# Altium footprint library Controller-RK3562-PCB.PcbLib: 68 footprints (part 1 of 5)
Each footprint in its own frame and in the unit in brackets; x right, y up, seen from the top. Pads: shape width x height; smd on the part's side, far side on the other; paste and mask are expansions set on the pad; w line width, h text height; cw(c..) or ccw(c..) is an arc to the next point about the centre after c.
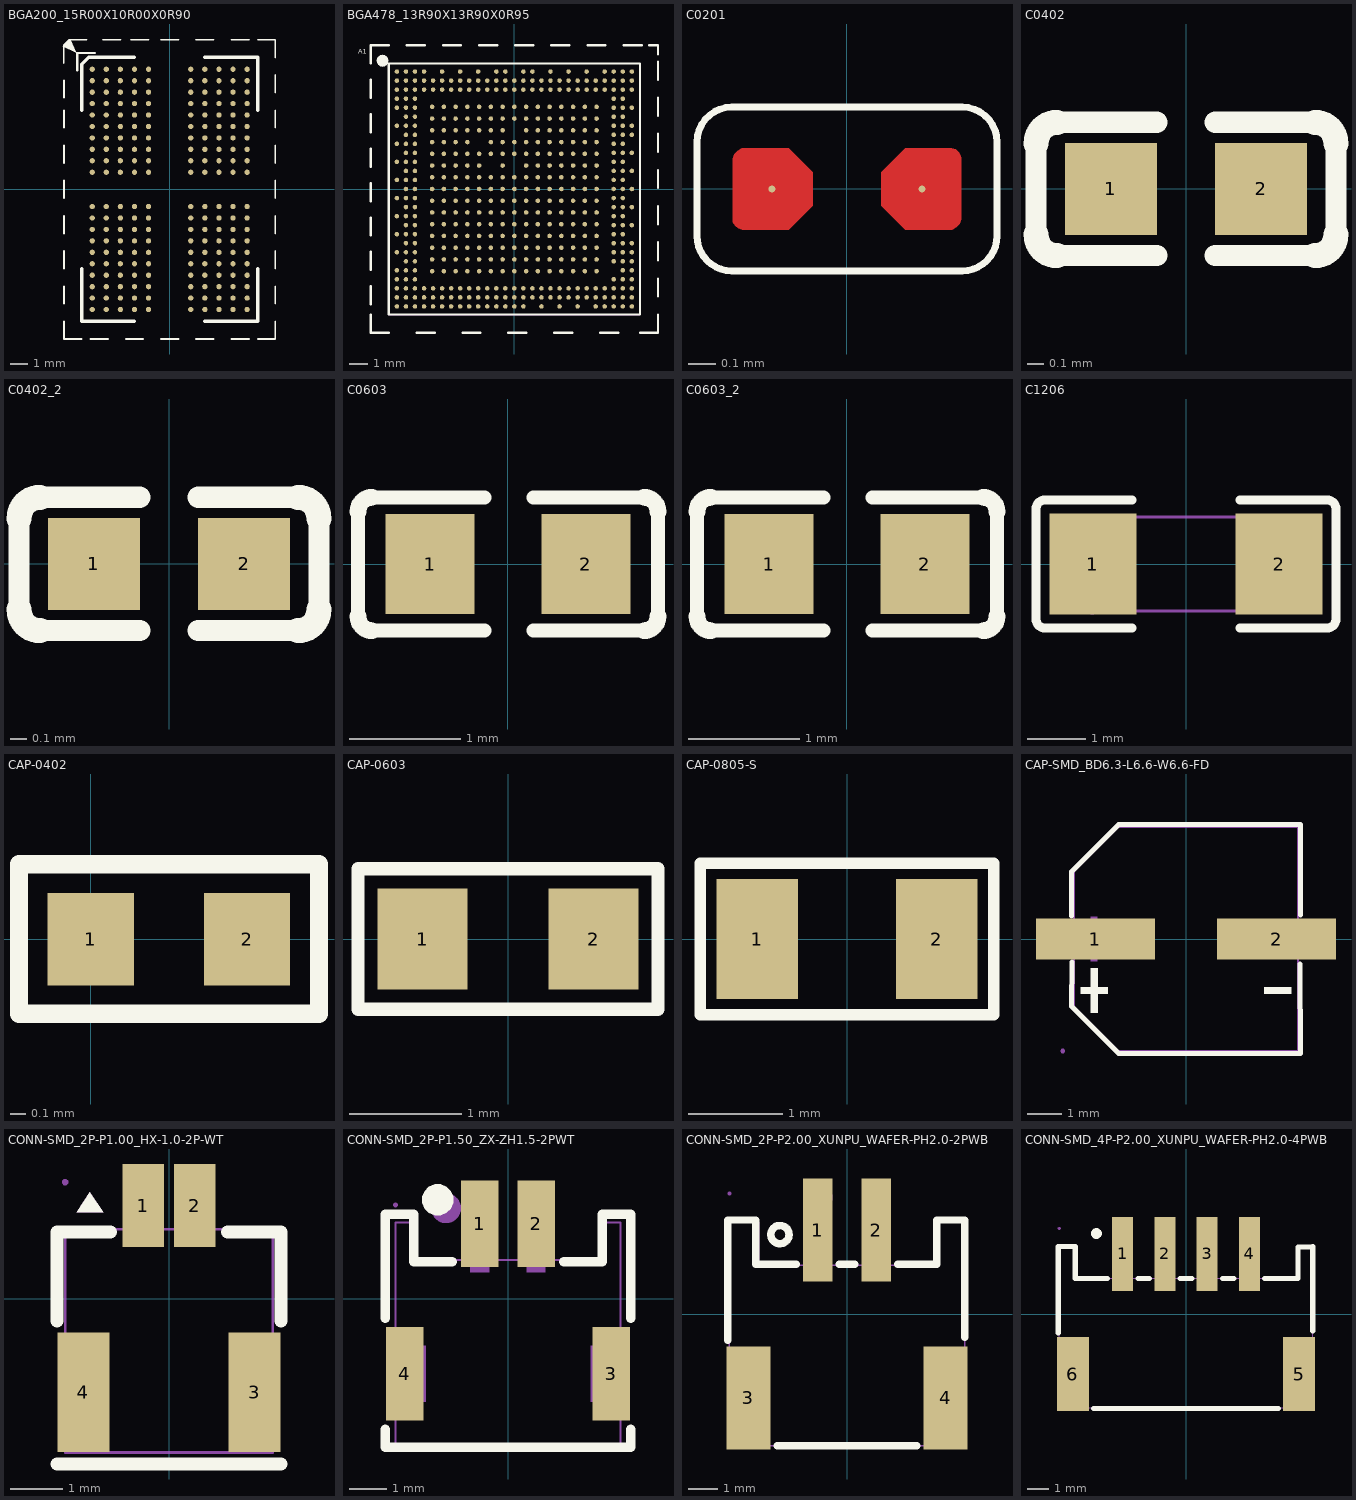
[diagram p0: the footprints below, top view; thin cyan lines are the x and y axes]

## BGA200_15R00X10R00X0R90 [mm] "BGA200_15R00X10R00X0R90"
pads (200):
  round 0.3 smd: A1(-4.4,6.825) A2(-3.6,6.825) A3(-2.8,6.825) A4(-2,6.825) A5(-1.2,6.825) A8(1.2,6.825) A9(2,6.825) A10(2.8,6.825) A11(3.6,6.825) A12(4.4,6.825) AA1(-4.4,-6.175) AA2(-3.6,-6.175) AA3(-2.8,-6.175) AA4(-2,-6.175) AA5(-1.2,-6.175) AA8(1.2,-6.175) AA9(2,-6.175) AA10(2.8,-6.175) AA11(3.6,-6.175) AA12(4.4,-6.175) AB1(-4.4,-6.825) AB2(-3.6,-6.825) AB3(-2.8,-6.825) AB4(-2,-6.825) AB5(-1.2,-6.825) AB8(1.2,-6.825) AB9(2,-6.825) AB10(2.8,-6.825) AB11(3.6,-6.825) AB12(4.4,-6.825) B1(-4.4,6.175) B2(-3.6,6.175) B3(-2.8,6.175) B4(-2,6.175) B5(-1.2,6.175) B8(1.2,6.175) B9(2,6.175) B10(2.8,6.175) B11(3.6,6.175) B12(4.4,6.175) C1(-4.4,5.525) C2(-3.6,5.525) C3(-2.8,5.525) C4(-2,5.525) C5(-1.2,5.525) C8(1.2,5.525) C9(2,5.525) C10(2.8,5.525) C11(3.6,5.525) C12(4.4,5.525) D1(-4.4,4.875) D2(-3.6,4.875) D3(-2.8,4.875) D4(-2,4.875) D5(-1.2,4.875) D8(1.2,4.875) D9(2,4.875) D10(2.8,4.875) D11(3.6,4.875) D12(4.4,4.875) E1(-4.4,4.225) E2(-3.6,4.225) E3(-2.8,4.225) E4(-2,4.225) E5(-1.2,4.225) E8(1.2,4.225) E9(2,4.225) E10(2.8,4.225) E11(3.6,4.225) E12(4.4,4.225) F1(-4.4,3.575) F2(-3.6,3.575) F3(-2.8,3.575) F4(-2,3.575) F5(-1.2,3.575) F8(1.2,3.575) F9(2,3.575) F10(2.8,3.575) F11(3.6,3.575) F12(4.4,3.575) G1(-4.4,2.925) G2(-3.6,2.925) G3(-2.8,2.925) G4(-2,2.925) G5(-1.2,2.925) G8(1.2,2.925) G9(2,2.925) G10(2.8,2.925) G11(3.6,2.925) G12(4.4,2.925) H1(-4.4,2.275) H2(-3.6,2.275) H3(-2.8,2.275) H4(-2,2.275) H5(-1.2,2.275) H8(1.2,2.275) H9(2,2.275) H10(2.8,2.275) H11(3.6,2.275) H12(4.4,2.275) J1(-4.4,1.625) J2(-3.6,1.625) J3(-2.8,1.625) J4(-2,1.625) J5(-1.2,1.625) J8(1.2,1.625) J9(2,1.625) J10(2.8,1.625) J11(3.6,1.625) J12(4.4,1.625) K1(-4.4,0.975) K2(-3.6,0.975) K3(-2.8,0.975) K4(-2,0.975) K5(-1.2,0.975) K8(1.2,0.975) K9(2,0.975) K10(2.8,0.975) K11(3.6,0.975) K12(4.4,0.975) N1(-4.4,-0.975) N2(-3.6,-0.975) N3(-2.8,-0.975) N4(-2,-0.975) N5(-1.2,-0.975) N8(1.2,-0.975) N9(2,-0.975) N10(2.8,-0.975) N11(3.6,-0.975) N12(4.4,-0.975) P1(-4.4,-1.625) P2(-3.6,-1.625) P3(-2.8,-1.625) P4(-2,-1.625) P5(-1.2,-1.625) P8(1.2,-1.625) P9(2,-1.625) P10(2.8,-1.625) P11(3.6,-1.625) P12(4.4,-1.625) R1(-4.4,-2.275) R2(-3.6,-2.275) R3(-2.8,-2.275) R4(-2,-2.275) R5(-1.2,-2.275) R8(1.2,-2.275) R9(2,-2.275) R10(2.8,-2.275) R11(3.6,-2.275) R12(4.4,-2.275) T1(-4.4,-2.925) T2(-3.6,-2.925) T3(-2.8,-2.925) T4(-2,-2.925) T5(-1.2,-2.925) T8(1.2,-2.925) T9(2,-2.925) T10(2.8,-2.925) T11(3.6,-2.925) T12(4.4,-2.925) U1(-4.4,-3.575) U2(-3.6,-3.575) U3(-2.8,-3.575) U4(-2,-3.575) U5(-1.2,-3.575) U8(1.2,-3.575) U9(2,-3.575) U10(2.8,-3.575) U11(3.6,-3.575) U12(4.4,-3.575) V1(-4.4,-4.225) V2(-3.6,-4.225) V3(-2.8,-4.225) V4(-2,-4.225) V5(-1.2,-4.225) V8(1.2,-4.225) V9(2,-4.225) V10(2.8,-4.225) V11(3.6,-4.225) V12(4.4,-4.225) W1(-4.4,-4.875) W2(-3.6,-4.875) W3(-2.8,-4.875) W4(-2,-4.875) W5(-1.2,-4.875) W8(1.2,-4.875) W9(2,-4.875) W10(2.8,-4.875) W11(3.6,-4.875) W12(4.4,-4.875) Y1(-4.4,-5.525) Y2(-3.6,-5.525) Y3(-2.8,-5.525) Y4(-2,-5.525) Y5(-1.2,-5.525) Y8(1.2,-5.525) Y9(2,-5.525) Y10(2.8,-5.525) Y11(3.6,-5.525) Y12(4.4,-5.525)
Top Overlay:
  dashed: -5.651,8.544 -6.076,8.12 -5.298,7.766
  lines w0.1: -6.012,7.188 -6.012,8.188 -5.705,8.495 -4.705,8.495 ; -6,-7.5 -6,-8.5 -5,-8.5 ; -6,-6.5 -6,-5.5 ; -6,-4.5 -6,-3.5 ; -6,-2.5 -6,-1.5 ; -6,-0.5 -6,0.5 ; -6,1.5 -6,2.5 ; -6,3.5 -6,4.5 ; -6,5.2 -6,6.2 ; -4.5,-8.5 -3.5,-8.5 ; -3.8,8.5 -2.8,8.5 ; -2.5,-8.5 -1.5,-8.5 ; -2.2,8.5 -1.2,8.5 ; -0.5,-8.5 0.5,-8.5 ; -0.5,8.5 0.5,8.5 ; 1.5,-8.5 2.5,-8.5 ; 1.5,8.5 2.5,8.5 ; 3.5,-8.5 4.5,-8.5 ; 3.5,8.5 4.5,8.5 ; 5,-8.5 6,-8.5 6,-7.5 ; 5,8.5 6,8.5 6,7.5 ; 6,-6.5 6,-5.5 ; 6,-4.5 6,-3.5 ; 6,-2.5 6,-1.5 ; 6,-0.5 6,0.5 ; 6,1.5 6,2.5 ; 6,3.5 6,4.5 ; 6,5.5 6,6.5
  lines w0.127: -5.25,6.75 -5.25,7.75 -4.25,7.75
  lines w0.2: -5,-4.5 -5,-7.5 -2,-7.5 ; -5,4.5 -5,7.1 -4.6,7.5 -2,7.5 ; 2,-7.5 5,-7.5 5,-4.5 ; 2,7.5 5,7.5 5,4.5
Mechanical 10:
  text "K8" at 1.2,1.3 h0.41
  text "N8" at 1.2,-0.65 h0.41
  text "K5" at -1.2,1.3 h0.41
  text "N5" at -1.2,-0.65 h0.41
  text "G11" at 3.6,3.413 h0.41
  text "A1" at -4.4,7.15 h0.41
  text "AB2" at -3.6,-6.337 h0.41
  text "AB11" at 3.6,-6.175 h0.41
  text "AB12" at 4.4,-6.175 h0.41
  text "A2" at -3.6,7.15 h0.41
  text "A11" at 3.6,7.313 h0.41
  text "A12" at 4.4,7.313 h0.41
  text "B1" at -4.4,6.5 h0.41
  text "B12" at 4.4,6.663 h0.41
  text "AA1" at -4.4,-5.687 h0.41
  text "AA12" at 4.4,-5.525 h0.41
  text "AB1" at -4.4,-6.337 h0.41
  text "A8" at 1.2,7.15 h0.41
  text "A5" at -1.2,7.15 h0.41
  text "B11" at 3.6,6.663 h0.41
  text "V11" at 3.6,-3.737 h0.41
  text "E9" at 2,4.55 h0.41
  text "AA9" at 2,-5.687 h0.41
  text "E10" at 2.8,4.713 h0.41
  text "H2" at -3.6,2.6 h0.41
  text "R9" at 2,-1.95 h0.41
  text "J11" at 3.6,2.113 h0.41
  text "P9" at 2,-1.3 h0.41
  text "H3" at -2.8,2.6 h0.41
  text "Y10" at 2.8,-5.037 h0.41
  text "E2" at -3.6,4.55 h0.41
  text "U4" at -2,-3.25 h0.41
  text "B4" at -2,6.5 h0.41
  text "Y11" at 3.6,-5.037 h0.41
  text "F9" at 2,3.9 h0.41
  text "Y9" at 2,-5.2 h0.41
  text "D3" at -2.8,5.2 h0.41
  text "W10" at 2.8,-4.387 h0.41
  text "P2" at -3.6,-1.3 h0.41
  text "H11" at 3.6,2.763 h0.41
  text "P5" at -1.2,-1.3 h0.41
  text "H4" at -2,2.6 h0.41
  text "Y3" at -2.8,-5.2 h0.41
  text "C2" at -3.6,5.85 h0.41
  text "U2" at -3.6,-3.25 h0.41
  text "C4" at -2,5.85 h0.41
  text "AA11" at 3.6,-5.525 h0.41
  text "F11" at 3.6,4.063 h0.41
  text "V9" at 2,-3.9 h0.41
  text "E3" at -2.8,4.55 h0.41
  text "V10" at 2.8,-3.737 h0.41
  text "T11" at 3.6,-2.437 h0.41
  text "R2" at -3.6,-1.95 h0.41
  text "H10" at 2.8,2.763 h0.41
  text "P4" at -2,-1.3 h0.41
  text "J8" at 1.2,1.95 h0.41
  text "R3" at -2.8,-1.95 h0.41
  text "B2" at -3.6,6.5 h0.41
  text "V2" at -3.6,-3.9 h0.41
  text "E4" at -2,4.55 h0.41
  text "AA4" at -2,-5.687 h0.41
  text "E11" at 3.6,4.713 h0.41
  text "U9" at 2,-3.25 h0.41
  text "B9" at 2,6.5 h0.41
  text "W3" at -2.8,-4.55 h0.41
  text "J9" at 2,1.95 h0.41
  text "R4" at -2,-1.95 h0.41
  text "C10" at 2.8,6.013 h0.41
  text "Y2" at -3.6,-5.2 h0.41
  text "F4" at -2,3.9 h0.41
  text "C11" at 3.6,6.013 h0.41
  text "U11" at 3.6,-3.087 h0.41
  text "C9" at 2,5.85 h0.41
  text "V3" at -2.8,-3.9 h0.41
  text "D10" at 2.8,5.363 h0.41
  text "J2" at -3.6,1.95 h0.41
  text "R10" at 2.8,-1.787 h0.41
  text "P8" at 1.2,-1.3 h0.41
  text "C3" at -2.8,5.85 h0.41
  text "AA2" at -3.6,-5.687 h0.41
  text "F2" at -3.6,3.9 h0.41
  text "J4" at -2,1.95 h0.41
  text "J5" at -1.2,1.95 h0.41
  text "H9" at 2,2.6 h0.41
  text "P11" at 3.6,-1.137 h0.41
  text "R11" at 3.6,-1.787 h0.41
  text "V4" at -2,-3.9 h0.41
  text "Y4" at -2,-5.2 h0.41
  text "T4" at -2,-2.6 h0.41
  text "T9" at 2,-2.6 h0.41
  text "U1" at -4.4,-3.25 h0.41
  text "U12" at 4.4,-3.087 h0.41
  text "F1" at -4.4,3.9 h0.41
  text "G4" at -2,3.25 h0.41
  text "F12" at 4.4,4.063 h0.41
  text "G9" at 2,3.25 h0.41
  text "A9" at 2,7.15 h0.41
  text "T2" at -3.6,-2.6 h0.41
  text "G2" at -3.6,3.25 h0.41
  text "F5" at -1.2,3.9 h0.41
  text "F8" at 1.2,3.9 h0.41
  text "H1" at -4.4,2.6 h0.41
  text "H5" at -1.2,2.6 h0.41
  text "H8" at 1.2,2.6 h0.41
  text "H12" at 4.4,2.763 h0.41
  text "K3" at -2.8,1.3 h0.41
  text "K10" at 2.8,1.463 h0.41
  text "K12" at 4.4,1.463 h0.41
  text "N1" at -4.4,-0.65 h0.41
  text "N3" at -2.8,-0.65 h0.41
  text "N10" at 2.8,-0.487 h0.41
  text "N12" at 4.4,-0.487 h0.41
  text "R1" at -4.4,-1.95 h0.41
  text "R5" at -1.2,-1.95 h0.41
  text "R8" at 1.2,-1.95 h0.41
  text "R12" at 4.4,-1.787 h0.41
  text "U5" at -1.2,-3.25 h0.41
  text "U8" at 1.2,-3.25 h0.41
  text "K1" at -4.4,1.3 h0.41
  text "AB9" at 2,-6.337 h0.41
  text "A4" at -2,7.15 h0.41
  text "AB4" at -2,-6.337 h0.41
  text "AB8" at 1.2,-6.337 h0.41
  text "A3" at -2.8,7.15 h0.41
  text "J1" at -4.4,1.95 h0.41
  text "J3" at -2.8,1.95 h0.41
  text "K2" at -3.6,1.3 h0.41
  text "C5" at -1.2,5.85 h0.41
  text "C8" at 1.2,5.85 h0.41
  text "E8" at 1.2,4.55 h0.41
  text "E5" at -1.2,4.55 h0.41
  text "C1" at -4.4,5.85 h0.41
  text "D2" at -3.6,5.2 h0.41
  text "D4" at -2,5.2 h0.41
  text "E1" at -4.4,4.55 h0.41
  text "G3" at -2.8,3.25 h0.41
  text "G5" at -1.2,3.25 h0.41
  text "G8" at 1.2,3.25 h0.41
  text "P12" at 4.4,-1.137 h0.41
  text "T12" at 4.4,-2.437 h0.41
  text "W11" at 3.6,-4.387 h0.41
  text "Y12" at 4.4,-5.037 h0.41
  text "T10" at 2.8,-2.437 h0.41
  text "W9" at 2,-4.55 h0.41
  text "V8" at 1.2,-3.9 h0.41
  text "Y8" at 1.2,-5.2 h0.41
  text "V5" at -1.2,-3.9 h0.41
  text "T3" at -2.8,-2.6 h0.41
  text "T5" at -1.2,-2.6 h0.41
  text "T8" at 1.2,-2.6 h0.41
  text "V1" at -4.4,-3.9 h0.41
  text "V12" at 4.4,-3.737 h0.41
  text "W2" at -3.6,-4.55 h0.41
  text "W4" at -2,-4.55 h0.41
  text "Y1" at -4.4,-5.2 h0.41
  text "AB5" at -1.2,-6.337 h0.41
  text "Y5" at -1.2,-5.2 h0.41
  text "AB3" at -2.8,-6.337 h0.41
  text "AB10" at 2.8,-6.175 h0.41
  text "A10" at 2.8,7.313 h0.41
  text "C12" at 4.4,6.013 h0.41
  text "D9" at 2,5.2 h0.41
  text "D11" at 3.6,5.363 h0.41
  text "E12" at 4.4,4.713 h0.41
  text "G1" at -4.4,3.25 h0.41
  text "G10" at 2.8,3.413 h0.41
  text "G12" at 4.4,3.413 h0.41
  text "J10" at 2.8,2.113 h0.41
  text "J12" at 4.4,2.113 h0.41
  text "K4" at -2,1.3 h0.41
  text "K9" at 2,1.3 h0.41
  text "K11" at 3.6,1.463 h0.41
  text "N2" at -3.6,-0.65 h0.41
  text "N4" at -2,-0.65 h0.41
  text "N9" at 2,-0.65 h0.41
  text "N11" at 3.6,-0.487 h0.41
  text "P1" at -4.4,-1.3 h0.41
  text "P3" at -2.8,-1.3 h0.41
  text "P10" at 2.8,-1.137 h0.41
  text "T1" at -4.4,-2.6 h0.41
  text "AA8" at 1.2,-5.687 h0.41
  text "F3" at -2.8,3.9 h0.41
  text "B10" at 2.8,6.663 h0.41
  text "F10" at 2.8,4.063 h0.41
  text "B5" at -1.2,6.5 h0.41
  text "U10" at 2.8,-3.087 h0.41
  text "AA5" at -1.2,-5.687 h0.41
  text "D12" at 4.4,5.363 h0.41
  text "W12" at 4.4,-4.387 h0.41
  text "B8" at 1.2,6.5 h0.41
  text "D8" at 1.2,5.2 h0.41
  text "D5" at -1.2,5.2 h0.41
  text "W5" at -1.2,-4.55 h0.41
  text "U3" at -2.8,-3.25 h0.41
  text "AA10" at 2.8,-5.525 h0.41
  text "W8" at 1.2,-4.55 h0.41
  text "AA3" at -2.8,-5.687 h0.41
  text "W1" at -4.4,-4.55 h0.41
  text "D1" at -4.4,5.2 h0.41
  text "B3" at -2.8,6.5 h0.41
Top Assembly:
  text "LPDDR4_200P" at 0,-0.127 h0.41
  text ".Designator" at 0,-0.254 h0.75
3D body "MT53E512M32D1ZW-046 WT_B.step": height 0.71, standoff 0, extent -5,-7.252 5,7.248

## BGA478_13R90X13R90X0R95 [mm] "BGA478_13R90X13R90X0R95"
pads (478):
  round 0.25 smd: 1A1(-4.55,4.55) 1A2(-3.9,4.55) 1A3(-3.25,4.55) 1A4(-2.6,4.55) 1A5(-1.95,4.55) 1A6(-1.3,4.55) 1A7(-0.65,4.55) 1A8(0,4.55) 1A9(0.65,4.55) 1A10(1.3,4.55) 1A11(1.95,4.55) 1A12(2.6,4.55) 1A13(3.25,4.55) 1A14(3.9,4.55) 1A15(4.55,4.55) 1B1(-4.55,3.9) 1B2(-3.9,3.9) 1B3(-3.25,3.9) 1B4(-2.6,3.9) 1B5(-1.95,3.9) 1B6(-1.3,3.9) 1B7(-0.65,3.9) 1B8(0,3.9) 1B9(0.65,3.9) 1B10(1.3,3.9) 1B11(1.95,3.9) 1B12(2.6,3.9) 1B13(3.25,3.9) 1B14(3.9,3.9) 1B15(4.55,3.9) 1C1(-4.55,3.25) 1C2(-3.9,3.25) 1C3(-3.25,3.25) 1C4(-2.6,3.25) 1C5(-1.95,3.25) 1C6(-1.3,3.25) 1C7(-0.65,3.25) 1C9(0.65,3.25) 1C10(1.3,3.25) 1C11(1.95,3.25) 1C12(2.6,3.25) 1C13(3.25,3.25) 1C14(3.9,3.25) 1C15(4.55,3.25) 1D1(-4.55,2.6) 1D2(-3.9,2.6) 1D3(-3.25,2.6) 1D4(-2.6,2.6) 1D6(-1.3,2.6) 1D7(-0.65,2.6) 1D8(0,2.6) 1D9(0.65,2.6) 1D10(1.3,2.6) 1D11(1.95,2.6) 1D12(2.6,2.6) 1D13(3.25,2.6) 1D14(3.9,2.6) 1D15(4.55,2.6) 1E1(-4.55,1.95) 1E2(-3.9,1.95) 1E3(-3.25,1.95) 1E4(-2.6,1.95) 1E5(-1.95,1.95) 1E6(-1.3,1.95) 1E7(-0.65,1.95) 1E8(0,1.95) 1E9(0.65,1.95) 1E10(1.3,1.95) 1E11(1.95,1.95) 1E12(2.6,1.95) 1E13(3.25,1.95) 1E14(3.9,1.95) 1E15(4.55,1.95) 1F1(-4.55,1.3) 1F2(-3.9,1.3) 1F3(-3.25,1.3) 1F4(-2.6,1.3) 1F5(-1.95,1.3) 1F7(-0.65,1.3) 1F9(0.65,1.3) 1F10(1.3,1.3) 1F11(1.95,1.3) 1F12(2.6,1.3) 1F13(3.25,1.3) 1F14(3.9,1.3) 1F15(4.55,1.3) 1G1(-4.55,0.65) 1G2(-3.9,0.65) 1G3(-3.25,0.65) 1G4(-2.6,0.65) 1G5(-1.95,0.65) 1G6(-1.3,0.65) 1G7(-0.65,0.65) 1G8(0,0.65) 1G9(0.65,0.65) 1G10(1.3,0.65) 1G11(1.95,0.65) 1G12(2.6,0.65) 1G13(3.25,0.65) 1G14(3.9,0.65) 1G15(4.55,0.65) 1H1(-4.55,0) 1H2(-3.9,0) 1H3(-3.25,0) 1H4(-2.6,0) 1H5(-1.95,0) 1H6(-1.3,0) 1H7(-0.65,0) 1H8(0,0) 1H9(0.65,0) 1H10(1.3,0) 1H11(1.95,0) 1H12(2.6,0) 1H13(3.25,0) 1H14(3.9,0) 1H15(4.55,0) 1J1(-4.55,-0.65) 1J2(-3.9,-0.65) 1J3(-3.25,-0.65) 1J4(-2.6,-0.65) 1J5(-1.95,-0.65) 1J6(-1.3,-0.65) 1J7(-0.65,-0.65) 1J8(0,-0.65) 1J9(0.65,-0.65) 1J10(1.3,-0.65) 1J11(1.95,-0.65) 1J12(2.6,-0.65) 1J13(3.25,-0.65) 1J14(3.9,-0.65) 1J15(4.55,-0.65) 1K1(-4.55,-1.3) 1K2(-3.9,-1.3) 1K3(-3.25,-1.3) 1K4(-2.6,-1.3) 1K5(-1.95,-1.3) 1K6(-1.3,-1.3) 1K7(-0.65,-1.3) 1K8(0,-1.3) 1K9(0.65,-1.3) 1K10(1.3,-1.3) 1K11(1.95,-1.3) 1K12(2.6,-1.3) 1K13(3.25,-1.3) 1K14(3.9,-1.3) 1K15(4.55,-1.3) 1L1(-4.55,-1.95) 1L2(-3.9,-1.95) 1L3(-3.25,-1.95) 1L4(-2.6,-1.95) 1L5(-1.95,-1.95) 1L6(-1.3,-1.95) 1L7(-0.65,-1.95) 1L8(0,-1.95) 1L9(0.65,-1.95) 1L10(1.3,-1.95) 1L11(1.95,-1.95) 1L12(2.6,-1.95) 1L13(3.25,-1.95) 1L14(3.9,-1.95) 1L15(4.55,-1.95) 1M1(-4.55,-2.6) 1M2(-3.9,-2.6) 1M3(-3.25,-2.6) 1M4(-2.6,-2.6) 1M5(-1.95,-2.6) 1M6(-1.3,-2.6) 1M7(-0.65,-2.6) 1M8(0,-2.6) 1M9(0.65,-2.6) 1M10(1.3,-2.6) 1M11(1.95,-2.6) 1M12(2.6,-2.6) 1M13(3.25,-2.6) 1M14(3.9,-2.6) 1M15(4.55,-2.6) 1N1(-4.55,-3.25) 1N2(-3.9,-3.25) 1N3(-3.25,-3.25) 1N4(-2.6,-3.25) 1N5(-1.95,-3.25) 1N6(-1.3,-3.25) 1N7(-0.65,-3.25) 1N8(0,-3.25) 1N9(0.65,-3.25) 1N10(1.3,-3.25) 1N11(1.95,-3.25) 1N12(2.6,-3.25) 1N13(3.25,-3.25) 1N14(3.9,-3.25) 1N15(4.55,-3.25) 1P1(-4.55,-3.9) 1P2(-3.9,-3.9) 1P3(-3.25,-3.9) 1P4(-2.6,-3.9) 1P5(-1.95,-3.9) 1P6(-1.3,-3.9) 1P7(-0.65,-3.9) 1P8(0,-3.9) 1P9(0.65,-3.9) 1P10(1.3,-3.9) 1P11(1.95,-3.9) 1P12(2.6,-3.9) 1P13(3.25,-3.9) 1P14(3.9,-3.9) 1P15(4.55,-3.9) 1R1(-4.55,-4.55) 1R2(-3.9,-4.55) 1R3(-3.25,-4.55) 1R4(-2.6,-4.55) 1R5(-1.95,-4.55) 1R6(-1.3,-4.55) 1R7(-0.65,-4.55) 1R8(0,-4.55) 1R9(0.65,-4.55) 1R10(1.3,-4.55) 1R11(1.95,-4.55) 1R12(2.6,-4.55) 1R13(3.25,-4.55) 1R14(3.9,-4.55) 1R15(4.55,-4.55) A1(-6.5,6.5) A2(-6,6.5) A3(-5.5,6.5) A4(-5,6.5) A6(-4,6.5) A8(-3,6.5) A10(-2,6.5) A12(-1,6.5) A13(-0.5,6.5) A15(0.5,6.5) A16(1,6.5) A18(2,6.5) A20(3,6.5) A22(4,6.5) A24(5,6.5) A25(5.5,6.5) A26(6,6.5) A27(6.5,6.5) AA1(-6.5,-3.5) AA2(-6,-3.5) AA3(-5.5,-3.5) AA25(5.5,-3.5) AA26(6,-3.5) AA27(6.5,-3.5) AB2(-6,-4) AB3(-5.5,-4) AB25(5.5,-4) AB26(6,-4) AB27(6.5,-4) AC1(-6.5,-4.5) AC2(-6,-4.5) AC3(-5.5,-4.5) AC26(6,-4.5) AC27(6.5,-4.5) AD1(-6.5,-5) AD2(-6,-5) AD3(-5.5,-5) AD25(5.5,-5) AD26(6,-5) AD27(6.5,-5) AE1(-6.5,-5.5) AE2(-6,-5.5) AE3(-5.5,-5.5) AE4(-5,-5.5) AE5(-4.5,-5.5) AE6(-4,-5.5) AE7(-3.5,-5.5) AE8(-3,-5.5) AE9(-2.5,-5.5) AE10(-2,-5.5) AE11(-1.5,-5.5) AE12(-1,-5.5) AE13(-0.5,-5.5) AE14(0,-5.5) AE15(0.5,-5.5) AE16(1,-5.5) AE17(1.5,-5.5) AE18(2,-5.5) AE19(2.5,-5.5) AE20(3,-5.5) AE21(3.5,-5.5) AE22(4,-5.5) AE23(4.5,-5.5) AE24(5,-5.5) AE25(5.5,-5.5) AE26(6,-5.5) AE27(6.5,-5.5) AF1(-6.5,-6) AF2(-6,-6) AF3(-5.5,-6) AF4(-5,-6) AF5(-4.5,-6) AF6(-4,-6) AF7(-3.5,-6) AF8(-3,-6) AF9(-2.5,-6) AF10(-2,-6) AF11(-1.5,-6) AF12(-1,-6) AF13(-0.5,-6) AF14(0,-6) AF15(0.5,-6) AF16(1,-6) AF17(1.5,-6) AF18(2,-6) AF19(2.5,-6) AF20(3,-6) AF21(3.5,-6) AF22(4,-6) AF23(4.5,-6) AF24(5,-6) AF25(5.5,-6) AF26(6,-6) AF27(6.5,-6) AG1(-6.5,-6.5) AG2(-6,-6.5) AG3(-5.5,-6.5) AG4(-5,-6.5) AG5(-4.5,-6.5) AG6(-4,-6.5) AG7(-3.5,-6.5) AG8(-3,-6.5) AG9(-2.5,-6.5) AG10(-2,-6.5) AG11(-1.5,-6.5) AG12(-1,-6.5) AG13(-0.5,-6.5) AG14(0,-6.5) AG15(0.5,-6.5) AG17(1.5,-6.5) AG19(2.5,-6.5) AG21(3.5,-6.5) AG23(4.5,-6.5) AG24(5,-6.5) AG25(5.5,-6.5) AG26(6,-6.5) AG27(6.5,-6.5) B1(-6.5,6) B2(-6,6) B3(-5.5,6) B4(-5,6) B5(-4.5,6) B6(-4,6) B7(-3.5,6) B8(-3,6) B9(-2.5,6) B10(-2,6) B11(-1.5,6) B12(-1,6) B13(-0.5,6) B14(0,6) B15(0.5,6) B16(1,6) B17(1.5,6) B18(2,6) B19(2.5,6) B20(3,6) B21(3.5,6) B22(4,6) B23(4.5,6) B24(5,6) B25(5.5,6) B26(6,6) B27(6.5,6) C1(-6.5,5.5) C2(-6,5.5) C3(-5.5,5.5) C4(-5,5.5) C5(-4.5,5.5) C6(-4,5.5) C7(-3.5,5.5) C8(-3,5.5) C9(-2.5,5.5) C10(-2,5.5) C11(-1.5,5.5) C12(-1,5.5) C13(-0.5,5.5) C14(0,5.5) C15(0.5,5.5) C16(1,5.5) C17(1.5,5.5) C18(2,5.5) C19(2.5,5.5) C20(3,5.5) C21(3.5,5.5) C22(4,5.5) C23(4.5,5.5) C24(5,5.5) C25(5.5,5.5) C26(6,5.5) C27(6.5,5.5) D1(-6.5,5) D2(-6,5) D3(-5.5,5) D25(5.5,5) D26(6,5) E1(-6.5,4.5) E2(-6,4.5) E3(-5.5,4.5) E25(5.5,4.5) E26(6,4.5) E27(6.5,4.5) F2(-6,4) F3(-5.5,4) F25(5.5,4) F26(6,4) G1(-6.5,3.5) G2(-6,3.5) G3(-5.5,3.5) G25(5.5,3.5) G26(6,3.5) G27(6.5,3.5) H2(-6,3) H3(-5.5,3) H25(5.5,3) H26(6,3) H27(6.5,3) J1(-6.5,2.5) J2(-6,2.5) J3(-5.5,2.5) J25(5.5,2.5) J26(6,2.5) K2(-6,2) K3(-5.5,2) K25(5.5,2) K26(6,2) K27(6.5,2) L1(-6.5,1.5) L2(-6,1.5) L3(-5.5,1.5) L25(5.5,1.5) L26(6,1.5) M2(-6,1) M3(-5.5,1) M25(5.5,1) M26(6,1) M27(6.5,1) N1(-6.5,0.5) N2(-6,0.5) N3(-5.5,0.5) N25(5.5,0.5) N26(6,0.5) P2(-6,0) P3(-5.5,0) P25(5.5,0) P26(6,0) P27(6.5,0) R1(-6.5,-0.5) R2(-6,-0.5) R3(-5.5,-0.5) R25(5.5,-0.5) R26(6,-0.5) T2(-6,-1) T3(-5.5,-1) T25(5.5,-1) T26(6,-1) T27(6.5,-1) U1(-6.5,-1.5) U2(-6,-1.5) U3(-5.5,-1.5) U25(5.5,-1.5) U26(6,-1.5) V2(-6,-2) V3(-5.5,-2) V25(5.5,-2) V26(6,-2) V27(6.5,-2) W1(-6.5,-2.5) W2(-6,-2.5) W3(-5.5,-2.5) W25(5.5,-2.5) W26(6,-2.5) Y2(-6,-3) Y3(-5.5,-3) Y25(5.5,-3) Y26(6,-3) Y27(6.5,-3)
Top Overlay:
  dashed: -6.978,7.1 -7.002,7.223 -7.072,7.328 -7.177,7.398 -7.3,7.422 -7.423,7.398 -7.458,7.375 -7.528,7.328 -7.598,7.223 -7.622,7.1 -7.598,6.977 -7.528,6.872 -7.458,6.825 -7.423,6.802 -7.3,6.778 -7.177,6.802 -7.072,6.872 -7.002,6.977
  lines w0.127: -7.95,-6.95 -7.95,-7.95 ; -7.95,-6.385 -7.95,-5.385 ; -7.95,-4.48 -7.95,-3.48 ; -7.95,-2.575 -7.95,-1.575 ; -7.95,-0.67 -7.95,0.33 ; -7.95,1.235 -7.95,2.235 ; -7.95,3.14 -7.95,4.14 ; -7.95,5.045 -7.95,6.045 ; -7.95,6.95 -7.95,7.95 -6.95,7.95 ; -5.95,7.95 -4.95,7.95 ; -5.41,-7.95 -4.41,-7.95 ; -3.95,7.95 -2.95,7.95 ; -2.87,-7.95 -1.87,-7.95 ; -1.95,7.95 -0.95,7.95 ; -0.33,-7.95 0.67,-7.95 ; 0.05,7.95 1.05,7.95 ; 2.05,7.95 3.05,7.95 ; 2.21,-7.95 3.21,-7.95 ; 4.05,7.95 5.05,7.95 ; 4.75,-7.95 5.75,-7.95 ; 6.05,7.95 7.05,7.95 ; 6.95,-7.95 7.95,-7.95 7.95,-6.95 ; 7.45,7.95 7.95,7.95 7.95,7.45 ; 7.95,-5.95 7.95,-4.95 ; 7.95,-3.95 7.95,-2.95 ; 7.95,-1.95 7.95,-0.95 ; 7.95,0.05 7.95,1.05 ; 7.95,2.05 7.95,3.05 ; 7.95,4.05 7.95,5.05 ; 7.95,6.05 7.95,7.05 ; -7.95,-7.95 -6.95,-7.95 -7.95,-7.95 ; -6.95,-6.95 -6.95,6.95 6.95,6.95 6.95,-6.95 -6.95,-6.95
  text "A1" at -8.653,7.48 h0.25
Mechanical 5:
  lines w0.025: -6.95,-6.95 -6.95,6.95 6.95,6.95 6.95,-6.95 -6.95,-6.95
Mechanical 10:
  text "1M8" at -0.192,-2.6 h0.16
  text "1M7" at -0.842,-2.6 h0.16
  text "1L8" at -0.192,-1.95 h0.16
  text "1L6" at -1.492,-1.95 h0.16
  text "1H11" at 1.694,0 h0.16
  text "1E10" at 1.044,1.95 h0.16
  text "1E8" at -0.192,1.95 h0.16
  text "1E6" at -1.492,1.95 h0.16
  text "1E4" at -2.792,1.95 h0.16
  text "E2" at -6.128,4.5 h0.16
  text "AF27" at 6.244,-6 h0.16
  text "AF12" at -1.256,-6 h0.16
  text "AG12" at -1.256,-6.5 h0.16
  text "AF10" at -2.256,-6 h0.16
  text "AG10" at -2.256,-6.5 h0.16
  text "AG11" at -1.756,-6.5 h0.16
  text "AF11" at -1.756,-6 h0.16
  text "U25" at 5.308,-1.5 h0.16
  text "AG13" at -0.756,-6.5 h0.16
  text "AF13" at -0.756,-6 h0.16
  text "AF14" at -0.256,-6 h0.16
  text "AG14" at -0.256,-6.5 h0.16
  text "E1" at -6.628,4.5 h0.16
  text "AG24" at 4.744,-6.5 h0.16
  text "AE24" at 4.744,-5.5 h0.16
  text "G1" at -6.628,3.5 h0.16
  text "D1" at -6.628,5 h0.16
  text "F2" at -6.128,4 h0.16
  text "H2" at -6.128,3 h0.16
  text "1M1" at -4.742,-2.6 h0.16
  text "1P15" at 4.294,-3.9 h0.16
  text "P27" at 6.308,0 h0.16
  text "AG21" at 3.244,-6.5 h0.16
  text "W1" at -6.628,-2.5 h0.16
  text "W3" at -5.628,-2.5 h0.16
  text "L26" at 5.808,1.5 h0.16
  text "K27" at 6.308,2 h0.16
  text "H25" at 5.308,3 h0.16
  text "J26" at 5.808,2.5 h0.16
  text "J25" at 5.308,2.5 h0.16
  text "E25" at 5.308,4.5 h0.16
  text "1L12" at 2.344,-1.95 h0.16
  text "D25" at 5.308,5 h0.16
  text "P3" at -5.628,0 h0.16
  text "AF26" at 5.744,-6 h0.16
  text "1P14" at 3.644,-3.9 h0.16
  text "1E14" at 3.644,1.95 h0.16
  text "1E15" at 4.294,1.95 h0.16
  text "AE22" at 3.744,-5.5 h0.16
  text "V2" at -6.128,-2 h0.16
  text "1B6" at -1.492,3.9 h0.16
  text "1B7" at -0.842,3.9 h0.16
  text "1B10" at 1.044,3.9 h0.16
  text "1C9" at 0.458,3.25 h0.16
  text "B9" at -2.628,6 h0.16
  text "B19" at 2.308,6 h0.16
  text "1L1" at -4.742,-1.95 h0.16
  text "1M2" at -4.092,-2.6 h0.16
  text "L2" at -6.128,1.5 h0.16
  text "W25" at 5.308,-2.5 h0.16
  text "1J14" at 3.644,-0.65 h0.16
  text "V26" at 5.808,-2 h0.16
  text "D3" at -5.628,5 h0.16
  text "R3" at -5.628,-0.5 h0.16
  text "P2" at -6.128,0 h0.16
  text "N1" at -6.628,0.5 h0.16
  text "AC2" at -6.192,-4.5 h0.16
  text "AC1" at -6.692,-4.5 h0.16
  text "W2" at -6.128,-2.5 h0.16
  text "Y3" at -5.628,-3 h0.16
  text "U1" at -6.628,-1.5 h0.16
  text "R2" at -6.128,-0.5 h0.16
  text "T3" at -5.628,-1 h0.16
  text "AA3" at -5.692,-3.5 h0.16
  text "N2" at -6.128,0.5 h0.16
  text "U2" at -6.128,-1.5 h0.16
  text "Y2" at -6.128,-3 h0.16
  text "T2" at -6.128,-1 h0.16
  text "AB3" at -5.692,-4 h0.16
  text "AB2" at -6.192,-4 h0.16
  text "N3" at -5.628,0.5 h0.16
  text "R1" at -6.628,-0.5 h0.16
  text "M3" at -5.628,1 h0.16
  text "M2" at -6.128,1 h0.16
  text "AA1" at -6.692,-3.5 h0.16
  text "AA2" at -6.192,-3.5 h0.16
  text "V3" at -5.628,-2 h0.16
  text "G26" at 5.808,3.5 h0.16
  text "E26" at 5.808,4.5 h0.16
  text "E27" at 6.308,4.5 h0.16
  text "F25" at 5.308,4 h0.16
  text "1F1" at -4.742,1.3 h0.16
  text "1J1" at -4.742,-0.65 h0.16
  text "1F2" at -4.092,1.3 h0.16
  text "1J2" at -4.092,-0.65 h0.16
  text "1H1" at -4.742,0 h0.16
  text "1L2" at -4.092,-1.95 h0.16
  text "1K1" at -4.742,-1.3 h0.16
  text "1E1" at -4.742,1.95 h0.16
  text "1R7" at -0.842,-4.55 h0.16
  text "1P7" at -0.842,-3.9 h0.16
  text "1R3" at -3.442,-4.55 h0.16
  text "1P3" at -3.442,-3.9 h0.16
  text "AF1" at -6.692,-6 h0.16
  text "AE1" at -6.692,-5.5 h0.16
  text "AD2" at -6.192,-5 h0.16
  text "AD1" at -6.692,-5 h0.16
  text "AC27" at 6.244,-4.5 h0.16
  text "AC26" at 5.744,-4.5 h0.16
  text "AE26" at 5.744,-5.5 h0.16
  text "AE27" at 6.244,-5.5 h0.16
  text "AB27" at 6.244,-4 h0.16
  text "AB26" at 5.744,-4 h0.16
  text "AD27" at 6.244,-5 h0.16
  text "AD26" at 5.744,-5 h0.16
  text "AF17" at 1.244,-6 h0.16
  text "AF15" at 0.244,-6 h0.16
  text "AG17" at 1.244,-6.5 h0.16
  text "1R11" at 1.694,-4.55 h0.16
  text "1M11" at 1.694,-2.6 h0.16
  text "AE16" at 0.744,-5.5 h0.16
  text "AG19" at 2.244,-6.5 h0.16
  text "AE19" at 2.244,-5.5 h0.16
  text "AF19" at 2.244,-6 h0.16
  text "AE18" at 1.744,-5.5 h0.16
  text "AF18" at 1.744,-6 h0.16
  text "AE17" at 1.244,-5.5 h0.16
  text "1M13" at 2.994,-2.6 h0.16
  text "M26" at 5.808,1 h0.16
  text "AF21" at 3.244,-6 h0.16
  text "1L11" at 1.694,-1.95 h0.16
  text "G3" at -5.628,3.5 h0.16
  text "G2" at -6.128,3.5 h0.16
  text "F26" at 5.808,4 h0.16
  text "H3" at -5.628,3 h0.16
  text "1L3" at -3.442,-1.95 h0.16
  text "J1" at -6.628,2.5 h0.16
  text "AF22" at 3.744,-6 h0.16
  text "J2" at -6.128,2.5 h0.16
  text "K3" at -5.628,2 h0.16
  text "L1" at -6.628,1.5 h0.16
  text "L3" at -5.628,1.5 h0.16
  text "K2" at -6.128,2 h0.16
  text "AG23" at 4.244,-6.5 h0.16
  text "AE15" at 0.244,-5.5 h0.16
  text "AF16" at 0.744,-6 h0.16
  text "AE23" at 4.244,-5.5 h0.16
  text "AE20" at 2.744,-5.5 h0.16
  text "AF20" at 2.744,-6 h0.16
  text "AF23" at 4.244,-6 h0.16
  text "1G15" at 4.294,0.65 h0.16
  text "T27" at 6.308,-1 h0.16
  text "T26" at 5.808,-1 h0.16
  text "T25" at 5.308,-1 h0.16
  text "V25" at 5.308,-2 h0.16
  text "U26" at 5.808,-1.5 h0.16
  text "AA25" at 5.244,-3.5 h0.16
  text "Y25" at 5.308,-3 h0.16
  text "1J15" at 4.294,-0.65 h0.16
  text "1H15" at 4.294,0 h0.16
  text "Y26" at 5.808,-3 h0.16
  text "1H14" at 3.644,0 h0.16
  text "Y27" at 6.308,-3 h0.16
  text "V27" at 6.308,-2 h0.16
  text "W26" at 5.808,-2.5 h0.16
  text "H27" at 6.308,3 h0.16
  text "H26" at 5.808,3 h0.16
  text "K25" at 5.308,2 h0.16
  text "K26" at 5.808,2 h0.16
  text "M25" at 5.308,1 h0.16
  text "1R13" at 2.994,-4.55 h0.16
  text "1P12" at 2.344,-3.9 h0.16
  text "AF25" at 5.244,-6 h0.16
  text "AG25" at 5.244,-6.5 h0.16
  text "1L5" at -2.142,-1.95 h0.16
  text "1M4" at -2.792,-2.6 h0.16
  text "1K3" at -3.442,-1.3 h0.16
  text "1K2" at -4.092,-1.3 h0.16
  text "D26" at 5.808,5 h0.16
  text "1L13" at 2.994,-1.95 h0.16
  text "1M14" at 3.644,-2.6 h0.16
  text "1N9" at 0.458,-3.25 h0.16
  text "1K15" at 4.294,-1.3 h0.16
  text "1M15" at 4.294,-2.6 h0.16
  text "1M9" at 0.458,-2.6 h0.16
  text "1L14" at 3.644,-1.95 h0.16
  text "1K14" at 3.644,-1.3 h0.16
  text "1G1" at -4.742,0.65 h0.16
  text "1M10" at 1.044,-2.6 h0.16
  text "N26" at 5.808,0.5 h0.16
  text "N25" at 5.308,0.5 h0.16
  text "1R15" at 4.294,-4.55 h0.16
  text "P25" at 5.308,0 h0.16
  text "R25" at 5.308,-0.5 h0.16
  text "R26" at 5.808,-0.5 h0.16
  text "1F14" at 3.644,1.3 h0.16
  text "AF2" at -6.192,-6 h0.16
  text "AG2" at -6.192,-6.5 h0.16
  text "AF3" at -5.692,-6 h0.16
  text "AG3" at -5.692,-6.5 h0.16
  text "AF4" at -5.192,-6 h0.16
  text "AG4" at -5.192,-6.5 h0.16
  text "1N15" at 4.294,-3.25 h0.16
  text "1N14" at 3.644,-3.25 h0.16
  text "1F9" at 0.458,1.3 h0.16
  text "1J4" at -2.792,-0.65 h0.16
  text "1R10" at 1.044,-4.55 h0.16
  text "1P8" at -0.192,-3.9 h0.16
  text "1N8" at -0.192,-3.25 h0.16
  text "1M6" at -1.492,-2.6 h0.16
  text "1N13" at 2.994,-3.25 h0.16
  text "1D14" at 3.644,2.6 h0.16
  text "1D15" at 4.294,2.6 h0.16
  text "1C12" at 2.344,3.25 h0.16
  text "1D1" at -4.742,2.6 h0.16
  text "1D2" at -4.092,2.6 h0.16
  text "1C5" at -2.142,3.25 h0.16
  text "1C6" at -1.492,3.25 h0.16
  text "1D7" at -0.842,2.6 h0.16
  text "1C7" at -0.842,3.25 h0.16
  text "AG1" at -6.692,-6.5 h0.16
  text "U3" at -5.628,-1.5 h0.16
  text "AB25" at 5.244,-4 h0.16
  text "A1" at -6.628,6.5 h0.16
  text "A12" at -1.192,6.5 h0.16
  text "A16" at 0.808,6.5 h0.16
  text "B14" at -0.192,6 h0.16
  text "C4" at -5.128,5.5 h0.16
  text "C7" at -3.628,5.5 h0.16
  text "C9" at -2.628,5.5 h0.16
  text "C14" at -0.192,5.5 h0.16
  text "C19" at 2.308,5.5 h0.16
  text "C21" at 3.308,5.5 h0.16
  text "E3" at -5.628,4.5 h0.16
  text "G27" at 6.308,3.5 h0.16
  text "G25" at 5.308,3.5 h0.16
  text "L25" at 5.308,1.5 h0.16
  text "M27" at 6.308,1 h0.16
  text "P26" at 5.808,0 h0.16
  text "AA27" at 6.244,-3.5 h0.16
  text "AA26" at 5.744,-3.5 h0.16
  text "AC3" at -5.692,-4.5 h0.16
  text "AD3" at -5.692,-5 h0.16
  text "AG15" at 0.244,-6.5 h0.16
  text "AD25" at 5.244,-5 h0.16
  text "AE2" at -6.192,-5.5 h0.16
  text "AE3" at -5.692,-5.5 h0.16
  text "AE4" at -5.192,-5.5 h0.16
  text "AE5" at -4.692,-5.5 h0.16
  text "AE6" at -4.192,-5.5 h0.16
  text "AE7" at -3.692,-5.5 h0.16
  text "AE8" at -3.192,-5.5 h0.16
  text "AE9" at -2.692,-5.5 h0.16
  text "AE10" at -2.256,-5.5 h0.16
  text "AE11" at -1.756,-5.5 h0.16
  text "AE12" at -1.256,-5.5 h0.16
  text "AE13" at -0.756,-5.5 h0.16
  text "AE14" at -0.256,-5.5 h0.16
  text "1A2" at -4.092,4.55 h0.16
  text "1A4" at -2.792,4.55 h0.16
  text "1A5" at -2.142,4.55 h0.16
  text "1A11" at 1.694,4.55 h0.16
  text "1B2" at -4.092,3.9 h0.16
  text "1B5" at -2.142,3.9 h0.16
  text "1C1" at -4.742,3.25 h0.16
  text "1C2" at -4.092,3.25 h0.16
  text "1C3" at -3.442,3.25 h0.16
  text "1C4" at -2.792,3.25 h0.16
  text "1C10" at 1.044,3.25 h0.16
  text "1C11" at 1.694,3.25 h0.16
  text "1C13" at 2.994,3.25 h0.16
  text "1C15" at 4.294,3.25 h0.16
  text "1E2" at -4.092,1.95 h0.16
  text "1E11" at 1.694,1.95 h0.16
  text "1E13" at 2.994,1.95 h0.16
  text "1F3" at -3.442,1.3 h0.16
  text "1G2" at -4.092,0.65 h0.16
  text "1G6" at -1.492,0.65 h0.16
  text "1G7" at -0.842,0.65 h0.16
  text "1G9" at 0.458,0.65 h0.16
  text "1G13" at 2.994,0.65 h0.16
  text "1G14" at 3.644,0.65 h0.16
  text "1H2" at -4.092,0 h0.16
  text "1H9" at 0.458,0 h0.16
  text "1H13" at 2.994,0 h0.16
  text "1J5" at -2.142,-0.65 h0.16
  text "1K4" at -2.792,-1.3 h0.16
  text "1K5" at -2.142,-1.3 h0.16
  text "1K6" at -1.492,-1.3 h0.16
  text "1K8" at -0.192,-1.3 h0.16
  text "1K11" at 1.694,-1.3 h0.16
  text "1K12" at 2.344,-1.3 h0.16
  text "1K13" at 2.994,-1.3 h0.16
  text "1L10" at 1.044,-1.95 h0.16
  text "1L15" at 4.294,-1.95 h0.16
  text "1M3" at -3.442,-2.6 h0.16
  text "1M12" at 2.344,-2.6 h0.16
  text "1N10" at 1.044,-3.25 h0.16
  text "1N11" at 1.694,-3.25 h0.16
  text "1P1" at -4.742,-3.9 h0.16
  text "1P2" at -4.092,-3.9 h0.16
  text "1P4" at -2.792,-3.9 h0.16
  text "1P6" at -1.492,-3.9 h0.16
  text "1P10" at 1.044,-3.9 h0.16
  text "1P11" at 1.694,-3.9 h0.16
  text "1P13" at 2.994,-3.9 h0.16
  text "1R2" at -4.092,-4.55 h0.16
  text "1R5" at -2.142,-4.55 h0.16
  text "1R8" at -0.192,-4.55 h0.16
  text "1R12" at 2.344,-4.55 h0.16
  text "A27" at 6.308,6.5 h0.16
  text "AG27" at 6.244,-6.5 h0.16
  text "1N12" at 2.344,-3.25 h0.16
  text "1L9" at 0.458,-1.95 h0.16
  text "1D9" at 0.458,2.6 h0.16
  text "1D8" at -0.192,2.6 h0.16
  text "1D3" at -3.442,2.6 h0.16
  text "D2" at -6.128,5 h0.16
  text "C3" at -5.628,5.5 h0.16
  text "C13" at -0.692,5.5 h0.16
  text "C15" at 0.308,5.5 h0.16
  text "1D13" at 2.994,2.6 h0.16
  text "1C14" at 3.644,3.25 h0.16
  text "1A12" at 2.344,4.55 h0.16
  text "1B12" at 2.344,3.9 h0.16
  text "C25" at 5.308,5.5 h0.16
  text "C24" at 4.808,5.5 h0.16
  text "1R6" at -1.492,-4.55 h0.16
  text "1N1" at -4.742,-3.25 h0.16
  text "1N2" at -4.092,-3.25 h0.16
  text "1N3" at -3.442,-3.25 h0.16
  text "1M5" at -2.142,-2.6 h0.16
  text "1N6" at -1.492,-3.25 h0.16
  text "1P5" at -2.142,-3.9 h0.16
  text "1N4" at -2.792,-3.25 h0.16
  text "1N5" at -2.142,-3.25 h0.16
  text "1N7" at -0.842,-3.25 h0.16
  text "1R4" at -2.792,-4.55 h0.16
  text "1R9" at 0.458,-4.55 h0.16
  text "1R14" at 3.644,-4.55 h0.16
  text "AE21" at 3.244,-5.5 h0.16
  text "1P9" at 0.458,-3.9 h0.16
  text "1J3" at -3.442,-0.65 h0.16
  text "1J8" at -0.192,-0.65 h0.16
  text "1K9" at 0.458,-1.3 h0.16
  text "1J9" at 0.458,-0.65 h0.16
  text "1J13" at 2.994,-0.65 h0.16
  text "1K7" at -0.842,-1.3 h0.16
  text "1L7" at -0.842,-1.95 h0.16
  text "AF24" at 4.744,-6 h0.16
  text "AG26" at 5.744,-6.5 h0.16
  text "F3" at -5.628,4 h0.16
  text "1B4" at -2.792,3.9 h0.16
  text "1B9" at 0.458,3.9 h0.16
  text "1D10" at 1.044,2.6 h0.16
  text "1D12" at 2.344,2.6 h0.16
  text "1B14" at 3.644,3.9 h0.16
  text "1A14" at 3.644,4.55 h0.16
  text "1F10" at 1.044,1.3 h0.16
  text "1F5" at -2.142,1.3 h0.16
  text "1F4" at -2.792,1.3 h0.16
  text "1H5" at -2.142,0 h0.16
  text "1F15" at 4.294,1.3 h0.16
  text "1F7" at -0.842,1.3 h0.16
  text "1R1" at -4.742,-4.55 h0.16
  text "AE25" at 5.244,-5.5 h0.16
  text "1L4" at -2.792,-1.95 h0.16
  text "1H12" at 2.344,0 h0.16
  text "J3" at -5.628,2.5 h0.16
  text "1E3" at -3.442,1.95 h0.16
  text "1E9" at 0.458,1.95 h0.16
  text "1D6" at -1.492,2.6 h0.16
  text "1E5" at -2.142,1.95 h0.16
  text "1E7" at -0.842,1.95 h0.16
  text "1D11" at 1.694,2.6 h0.16
  text "AG6" at -4.192,-6.5 h0.16
  text "AF6" at -4.192,-6 h0.16
  text "AG5" at -4.692,-6.5 h0.16
  text "AF5" at -4.692,-6 h0.16
  text "C22" at 3.808,5.5 h0.16
  text "AG8" at -3.192,-6.5 h0.16
  text "AF8" at -3.192,-6 h0.16
  text "AG7" at -3.692,-6.5 h0.16
  text "AF7" at -3.692,-6 h0.16
  text "AG9" at -2.692,-6.5 h0.16
  text "AF9" at -2.692,-6 h0.16
  text "B23" at 4.308,6 h0.16
  text "1A9" at 0.458,4.55 h0.16
  text "1A8" at -0.192,4.55 h0.16
  text "C10" at -2.192,5.5 h0.16
  text "B12" at -1.192,6 h0.16
  text "C12" at -1.192,5.5 h0.16
  text "C8" at -3.128,5.5 h0.16
  text "B22" at 3.808,6 h0.16
  text "B7" at -3.628,6 h0.16
  text "B15" at 0.308,6 h0.16
  text "1A10" at 1.044,4.55 h0.16
  text "A10" at -2.192,6.5 h0.16
  text "1A1" at -4.742,4.55 h0.16
  text "1B13" at 2.994,3.9 h0.16
  text "A3" at -5.628,6.5 h0.16
  text "B26" at 5.808,6 h0.16
  text "C1" at -6.628,5.5 h0.16
  text "C5" at -4.628,5.5 h0.16
  text "B20" at 2.808,6 h0.16
  text "A2" at -6.128,6.5 h0.16
  text "B17" at 1.308,6 h0.16
  text "A13" at -0.692,6.5 h0.16
  text "1A13" at 2.994,4.55 h0.16
  text "B3" at -5.628,6 h0.16
  text "A24" at 4.808,6.5 h0.16
  text "B1" at -6.628,6 h0.16
  text "A22" at 3.808,6.5 h0.16
  text "B5" at -4.628,6 h0.16
  text "A20" at 2.808,6.5 h0.16
  text "B6" at -4.128,6 h0.16
  text "C17" at 1.308,5.5 h0.16
  text "B13" at -0.692,6 h0.16
  text "C16" at 0.808,5.5 h0.16
  text "1A6" at -1.492,4.55 h0.16
  text "B18" at 1.808,6 h0.16
  text "1B11" at 1.694,3.9 h0.16
  text "1B15" at 4.294,3.9 h0.16
  text "1B3" at -3.442,3.9 h0.16
  text "B24" at 4.808,6 h0.16
  text "B2" at -6.128,6 h0.16
  text "C26" at 5.808,5.5 h0.16
  text "A6" at -4.128,6.5 h0.16
  text "C20" at 2.808,5.5 h0.16
  text "B8" at -3.128,6 h0.16
  text "B21" at 3.308,6 h0.16
  text "B11" at -1.692,6 h0.16
  text "B16" at 0.808,6 h0.16
  text "1B8" at -0.192,3.9 h0.16
  text "A18" at 1.808,6.5 h0.16
  text "1A15" at 4.294,4.55 h0.16
  text "1A3" at -3.442,4.55 h0.16
  text "A25" at 5.308,6.5 h0.16
  text "A4" at -5.128,6.5 h0.16
  text "C27" at 6.308,5.5 h0.16
  text "C6" at -4.128,5.5 h0.16
  text "C23" at 4.308,5.5 h0.16
  text "A8" at -3.128,6.5 h0.16
  text "A26" at 5.808,6.5 h0.16
  text "C11" at -1.692,5.5 h0.16
  text "A15" at 0.308,6.5 h0.16
  text "1A7" at -0.842,4.55 h0.16
  text "C18" at 1.808,5.5 h0.16
  text "B10" at -2.192,6 h0.16
  text "1B1" at -4.742,3.9 h0.16
  text "B25" at 5.308,6 h0.16
  text "B4" at -5.128,6 h0.16
  text "B27" at 6.308,6 h0.16
  text "C2" at -6.128,5.5 h0.16
  text "1E12" at 2.344,1.95 h0.16
  text "1F11" at 1.694,1.3 h0.16
  text "1F12" at 2.344,1.3 h0.16
  text "1G11" at 1.694,0.65 h0.16
  text "1G12" at 2.344,0.65 h0.16
  text "1F13" at 2.994,1.3 h0.16
  text "1G10" at 1.044,0.65 h0.16
  text "1H10" at 1.044,0 h0.16
  text "1J10" at 1.044,-0.65 h0.16
  text "1J11" at 1.694,-0.65 h0.16
  text "1J12" at 2.344,-0.65 h0.16
  text "1K10" at 1.044,-1.3 h0.16
  text "1G3" at -3.442,0.65 h0.16
  text "1G4" at -2.792,0.65 h0.16
  text "1G5" at -2.142,0.65 h0.16
  text "1H3" at -3.442,0 h0.16
  text "1H4" at -2.792,0 h0.16
  text "1G8" at -0.192,0.65 h0.16
  text "1H6" at -1.492,0 h0.16
  text "1H7" at -0.842,0 h0.16
  text "1H8" at -0.192,0 h0.16
  text "1J6" at -1.492,-0.65 h0.16
  text "1J7" at -0.842,-0.65 h0.16
  text "1D4" at -2.792,2.6 h0.16
Top Assembly:
  lines w0.025: -6.95,-6.95 -6.95,6.95 6.95,6.95 6.95,-6.95 -6.95,-6.95
  text ".Designator" at -2.54,0 h1.27
3D body "RK3562.step": height 0.87, standoff 0, extent -6.912,-6.979 6.988,6.921

## C0201 [mil] "C0201"
pads (2):
  round 1 smd: 1(-10.83,0) 2(10.83,0)
Top Layer:
  region: -10.83,5.91 -14.83,5.91 -15.18,5.86 -15.8,5.53 -16.26,5.01 -16.5,4.35 -16.5,4 -16.5,-4.5 -16.45,-4.8 -16.16,-5.32 -15.7,-5.7 -15.13,-5.91 -14.83,-5.91 -10.83,-5.91 -8.38,-5.91 -4.93,-2.45 -4.93,2.45 -8.38,5.91
  region: 10.83,-5.91 14.83,-5.91 15.18,-5.86 15.8,-5.53 16.26,-5.01 16.5,-4.35 16.5,-4 16.5,4.5 16.45,4.8 16.16,5.32 15.7,5.7 15.13,5.91 14.83,5.91 10.83,5.91 8.38,5.91 4.93,2.45 4.93,-2.45 8.38,-5.91
Top Overlay:
  lines w1: -21.65,-6.82 ccw(c-16.65,-6.82) -16.65,-11.82 16.66,-11.82 ccw(c16.66,-6.82) 21.66,-6.82 21.66,6.81 ccw(c16.66,6.81) 16.66,11.81 -16.65,11.81 ccw(c-16.64,6.81) -21.64,6.81 -21.65,-6.82
  text ".Designator" at 26.97,-11.64 h10
Mechanical 10:
  text "1" at -10.83,-4 h10
  text "2" at 10.83,-4 h10
Top Assembly:
  text "100nF" at -10,-20 h10

## C0402 [mm] "C0402"
pads (2):
  rect 0.55x0.55 smd: 1(-0.45,0) 2(0.45,0)
Top Overlay:
  lines w0.127: -0.9,-0.273 -0.9,0.273 ; -0.773,-0.4 -0.175,-0.4 ; -0.773,0.4 -0.175,0.4 ; 0.175,-0.4 0.773,-0.4 ; 0.175,0.4 0.773,0.4 ; 0.9,-0.273 0.9,0.273
  lines w0.15: -0.9,-0.273 ccw(c-0.773,-0.273) -0.773,-0.4 ; -0.9,0.273 cw(c-0.773,0.273) -0.773,0.4 ; 0.773,-0.4 ccw(c0.773,-0.273) 0.9,-0.273 ; 0.773,0.4 cw(c0.773,0.273) 0.9,0.273
3D body "CAPC1005(0402).STEP": height 0.49, standoff -0.01, extent -0.442,-0.25 0.558,0.25

## C0402_2 [mm]
pads (2):
  rect 0.55x0.55 smd: 1(-0.45,0) 2(0.45,0)
Top Overlay:
  lines w0.127: -0.9,-0.273 -0.9,0.273 ; -0.773,-0.4 -0.175,-0.4 ; -0.773,0.4 -0.175,0.4 ; 0.175,-0.4 0.773,-0.4 ; 0.175,0.4 0.773,0.4 ; 0.9,-0.273 0.9,0.273
  lines w0.15: -0.9,-0.273 ccw(c-0.773,-0.273) -0.773,-0.4 ; -0.9,0.273 cw(c-0.773,0.273) -0.773,0.4 ; 0.773,-0.4 ccw(c0.773,-0.273) 0.9,-0.273 ; 0.773,0.4 cw(c0.773,0.273) 0.9,0.273
Mechanical 10:
  text "2" at 0.45,0.102 h0.25
  text "1" at -0.45,0.102 h0.25
3D body "CAPC1005(0402).STEP": height 0.49, standoff -0.01, extent -0.442,-0.25 0.558,0.25

## C0603 [mm] "C0603"
pads (2):
  rect 0.8x0.9 smd: 1(-0.7,0) 2(0.7,0)
Top Overlay:
  lines w0.127: -1.349,-0.472 -1.349,0.472 ; -1.222,-0.6 -0.212,-0.599 ; -1.222,0.6 -0.212,0.6 ; 0.229,-0.6 1.222,-0.6 ; 0.229,0.6 1.222,0.6 ; 1.349,-0.472 1.349,0.472
  lines w0.15: -1.349,-0.472 ccw(c-1.222,-0.472) -1.222,-0.6 ; -1.349,0.472 cw(c-1.222,0.473) -1.222,0.6 ; 1.222,-0.6 ccw(c1.222,-0.472) 1.349,-0.472 ; 1.222,0.6 cw(c1.222,0.472) 1.349,0.472
3D body "CAPC1608(0603).STEP": height 0.6, standoff 0, extent -0.8,-0.4 0.8,0.4

## C0603_2 [mm]
pads (2):
  rect 0.8x0.9 smd: 1(-0.7,0) 2(0.7,0)
Top Overlay:
  lines w0.127: -1.349,-0.472 -1.349,0.472 ; -1.222,-0.6 -0.212,-0.599 ; -1.222,0.6 -0.212,0.6 ; 0.229,-0.6 1.222,-0.6 ; 0.229,0.6 1.222,0.6 ; 1.349,-0.472 1.349,0.472
  lines w0.15: -1.349,-0.472 ccw(c-1.222,-0.472) -1.222,-0.6 ; -1.349,0.472 cw(c-1.222,0.473) -1.222,0.6 ; 1.222,-0.6 ccw(c1.222,-0.472) 1.349,-0.472 ; 1.222,0.6 cw(c1.222,0.472) 1.349,0.472
Mechanical 10:
  text "1" at -0.598,0 h0.25
  text "2" at 0.802,0 h0.25
Bottom Assembly:
  text "22uF" at -1.524,0 h0.25
  text ".Designator" at -1.524,0 h0.25
3D body "CAPC1608(0603).STEP": height 0.6, standoff 0, extent -0.8,-0.4 0.8,0.4

## C1206 [mm]
pads (2):
  rect 1.485x1.728 smd paste-100 mask+0.051: 1(-1.593,0) 2(1.593,0)
Top Overlay:
  lines w0.152: -0.926,-1.093 -2.411,-1.093 cw(c-2.411,-0.94) -2.564,-0.94 -2.564,0.94 cw(c-2.411,0.94) -2.411,1.093 -0.926,1.093 ; 0.926,-1.093 2.411,-1.093 ccw(c2.411,-0.94) 2.564,-0.94 2.564,0.94 ccw(c2.411,0.94) 2.411,1.093 0.926,1.093
Top Paste:
  region: 0.85,-0.764 0.85,-0.394 0.95,-0.294 1.255,-0.294 1.355,-0.194 1.355,0.194 1.255,0.294 0.95,0.294 0.85,0.394 0.85,0.764 0.95,0.864 2.235,0.864 2.335,0.764 2.335,-0.764 2.235,-0.864 0.95,-0.864
  region: -0.85,-0.764 -0.85,-0.394 -0.95,-0.294 -1.255,-0.294 -1.355,-0.194 -1.355,0.194 -1.255,0.294 -0.95,0.294 -0.85,0.394 -0.85,0.764 -0.95,0.864 -2.235,0.864 -2.335,0.764 -2.335,-0.764 -2.235,-0.864 -0.95,-0.864
Top Component Center:
  region: -1.6,-0.8 -1.6,0.8 -1.1,0.8 -1.1,-0.8
  region: 1.6,-0.8 1.6,0.8 1.1,0.8 1.1,-0.8
Mechanical 6:
  lines w0.051: -1.6,-0.8 -1.6,0.8 1.6,0.8 1.6,-0.8 -1.6,-0.8
Bottom 3D Body:
  region: -1.54,-0.8 -1.54,-0.825 -1.575,-0.86 -1.625,-0.86 -1.66,-0.825 -1.66,-0.8 -1.66,-0.775 -1.625,-0.74 -1.575,-0.74 -1.54,-0.775 -1.54,-0.8
3D body "C1206.step": height 1.29, standoff -0.01, extent -1.6,-0.787 1.6,0.813

## CAP-0402 [mm]
height 1.75
pads (2):
  rect 0.56x0.6 smd mask+0.07: 1(0,0) 2(1.016,0)
Top Overlay:
  lines w0.12: -0.467,-0.485 1.483,-0.485 1.483,0.487 -0.467,0.487 -0.467,-0.485
3D body "CAPC1005(0402).STEP": height 0.49, standoff -0.01, extent 0.008,-0.25 1.008,0.25

## CAP-0603 [mm]
pads (2):
  rect 0.8x0.9 smd: 1(-0.762,0) 2(0.762,0)
Top Overlay:
  lines w0.12: -1.337,-0.625 -1.337,0.625 1.336,0.625 1.336,-0.625 -1.337,-0.625
3D body "CAPC1608(0603).STEP": height 0.6, standoff 0, extent -0.8,-0.4 0.8,0.4

## CAP-0805-S [mm]
height 1.75
pads (2):
  rect 0.862x1.27 smd: 1(-0.95,0) 2(0.95,0)
Top Overlay:
  lines w0.12: -1.55,-0.8 1.55,-0.8 1.55,0.8 -1.55,0.8 -1.55,-0.8
3D body "CAPC2012(0805).STEP": height 0.95, standoff 0, extent -1,-0.6 1,0.6

## CAP-SMD_BD6.3-L6.6-W6.6-FD [mm]
pads (2):
  rect 3.5x1.2 smd paste+0.051: 1(-2.67,0) 2(2.67,0)
Top Overlay:
  region: 3.102,-1.419 3.102,-1.617 2.31,-1.617 2.31,-1.419
  region: -3.102,-1.419 -3.102,-1.617 -2.31,-1.617 -2.31,-1.419
  region: -2.805,-0.858 -2.805,-2.178 -2.607,-2.178 -2.607,-0.858
  lines w0.152: -3.376,0.686 -3.376,1.98 -1.98,3.376 3.376,3.376 3.369,0.708 ; -3.362,-0.686 -3.376,-1.981 -1.981,-3.376 3.376,-3.376 3.356,-0.739
Mechanical 2:
  region: 3.102,0.099 3.102,-0.099 2.31,-0.099 2.31,0.099
  region: -3.102,0.099 -3.102,-0.099 -2.31,-0.099 -2.31,0.099
  region: -2.81,0.66 -2.81,-0.66 -2.612,-0.66 -2.612,0.66
Top Component Center:
  region: 1.067,0.325 3.667,0.325 3.667,-0.325 1.067,-0.325
  region: -3.634,0.325 -1.034,0.325 -1.034,-0.325 -3.634,-0.325
Mechanical 6:
  lines w0.051: -3.3,-1.98 -1.98,-3.3 3.3,-3.3 3.3,3.3 -1.98,3.3 -3.3,1.98 -3.3,-1.98
Bottom 3D Body:
  region: -3.574,-3.3 -3.574,-3.325 -3.609,-3.36 -3.659,-3.36 -3.694,-3.325 -3.694,-3.3 -3.694,-3.275 -3.659,-3.24 -3.609,-3.24 -3.574,-3.275 -3.574,-3.3
3D body "C66x77.step": height 7.71, standoff 0.01, extent -3.612,-3.289 3.688,3.311

## CONN-SMD_2P-P1.00_HX-1.0-2P-WT [mm]
pads (4):
  rect 0.8x1.6 smd paste+0 mask+0.05: 1(-0.5,1.8) 2(0.5,1.8)
  rect 1x2.3 smd paste+0 mask+0.05: 3(1.65,-1.8) 4(-1.65,-1.8)
Top Overlay:
  region: -1.524,2.054 -1.778,1.673 -1.27,1.673
  lines w0.254: -2.159,-3.181 2.159,-3.181 ; -2.159,-0.419 -2.159,1.292 -1.131,1.292 ; 1.131,1.292 2.159,1.292 2.159,-0.419
Mechanical 2:
  region: -1.524,2.054 -1.778,1.673 -1.27,1.673
Top Component Center:
  region: 0.4,2.25 0.6,2.25 0.6,1.25 0.4,1.25
  region: -0.6,2.25 -0.4,2.25 -0.4,1.25 -0.6,1.25
  region: -1.75,-1.05 -1.55,-1.05 -1.55,-2.55 -1.75,-2.55
  region: 1.55,-1.05 1.75,-1.05 1.75,-2.55 1.55,-2.55
Mechanical 6:
  lines w0.051: -2,-2.96 -2,1.34 2,1.34 2,-2.96 -2,-2.96
Bottom 3D Body:
  region: -1.94,2.25 -1.94,2.225 -1.975,2.19 -2.025,2.19 -2.06,2.225 -2.06,2.25 -2.06,2.275 -2.025,2.31 -1.975,2.31 -1.94,2.275 -1.94,2.25
3D body "CON-P1-2P.step": height 2.97, standoff 0.01, extent -2.057,-3.121 1.943,2.079

## CONN-SMD_2P-P1.50_ZX-ZH1.5-2PWT [mm]
pads (4):
  rect 1x2.3 smd paste+0 mask+0.05: 1(-0.75,2) 2(0.75,2)
  rect 1x2.5 smd paste+0 mask+0.05: 3(2.75,-2) 4(-2.75,-2)
Top Overlay:
  region: -2.285,2.635 -2.285,2.717 -2.222,2.868 -2.107,2.983 -1.956,3.046 -1.792,3.046 -1.641,2.983 -1.526,2.868 -1.463,2.717 -1.463,2.635 -1.463,2.553 -1.526,2.402 -1.641,2.287 -1.792,2.224 -1.956,2.224 -2.107,2.287 -2.222,2.402 -2.285,2.553 -2.285,2.635
  lines w0.254: -3.271,-3.48 -3.271,-3.969 3.27,-3.969 ; -3.271,-0.52 -3.271,2.254 -2.509,2.254 -2.509,0.984 -1.481,0.984 ; 1.481,0.984 2.509,0.984 2.509,2.254 3.271,2.254 3.271,-0.52 ; 3.271,-3.969 3.271,-3.48
Mechanical 2:
  circle w0.4: c-1.651,2.413 r0.2
Top Component Center:
  region: 2.2,-1.25 3,-1.25 3,-2.75 2.2,-2.75
  region: -3,-1.25 -2.2,-1.25 -2.2,-2.75 -3,-2.75
  region: 1,0.7 0.5,0.7 0.5,2.5 1,2.5
  region: -0.5,0.7 -1,0.7 -1,2.5 -0.5,2.5
Mechanical 6:
  lines w0.051: -3,-3.969 -3,2.031 -2.5,2.031 -2.5,1.031 2.5,1.031 2.5,2.031 3,2.031 3,-3.969 -3,-3.969
Bottom 3D Body:
  region: -2.94,2.5 -2.94,2.475 -2.975,2.44 -3.025,2.44 -3.06,2.475 -3.06,2.5 -3.06,2.525 -3.025,2.56 -2.975,2.56 -2.94,2.525 -2.94,2.5
3D body "CON-P1.5-2P.step": height 3.81, standoff 0.01, extent -3.043,-3.975 2.967,2.525

## CONN-SMD_2P-P2.00_XUNPU_WAFER-PH2.0-2PWB [mm]
pads (4):
  rect 1x3.5 smd paste+0 mask+0.05: 1(-1,2.85) 2(1,2.85)
  rect 1.5x3.5 smd paste+0 mask+0.05: 3(-3.35,-2.85) 4(3.35,-2.85)
Top Overlay:
  circle w0.254: c-2.28,2.7 r0.31
  lines w0.254: -4.048,-0.898 -4.048,3.196 -3.097,3.196 -3.097,1.697 -1.779,1.697 -1.731,1.697 ; -2.369,-4.475 0.164,-4.475 2.369,-4.475 ; -0.269,1.697 0.269,1.697 ; 1.731,1.697 3.049,1.697 3.049,3.196 4,3.196 4,-0.798
Mechanical 2:
  circle w0.5: c-0.99,3.96 r0.25
Top Component Center:
  region: -3.5,-1.875 -3.2,-1.875 -3.2,-4.375 -3.5,-4.375
  region: 3.2,-1.875 3.5,-1.875 3.5,-4.375 3.2,-4.375
  region: -1.25,4.1 -0.75,4.1 -0.75,1.6 -1.25,1.6
  region: 0.75,4.1 1.25,4.1 1.25,1.6 0.75,1.6
Mechanical 6:
  lines w0.051: -4,-4.475 4,-4.475 4,1.655 4,3.115 3,3.115 3,1.655 -3,1.655 -3,3.115 -4,3.115 -4,1.655 -4,-4.475
Bottom 3D Body:
  region: -3.94,4.1 -3.94,4.075 -3.975,4.04 -4.025,4.04 -4.06,4.075 -4.06,4.1 -4.06,4.125 -4.025,4.16 -3.975,4.16 -3.94,4.125 -3.94,4.1
3D body "CON-P2-2.step": height 5.62, standoff 0.01, extent -3.988,-4.534 3.912,3.966

## CONN-SMD_4P-P2.00_XUNPU_WAFER-PH2.0-4PWB [mm]
pads (6):
  rect 1x3.5 smd paste+0 mask+0.05: 1(-3,2.85) 2(-1,2.85) 3(1,2.85) 4(3,2.85)
  rect 1.5x3.5 smd paste+0 mask+0.05: 5(5.35,-2.85) 6(-5.35,-2.85)
Top Overlay:
  circle w0.254: c-4.239,3.81 r0.127
  lines w0.254: -6.048,-0.898 -6.048,3.196 -5.25,3.196 -5.25,1.68 -3.731,1.68 ; -4.369,-4.475 2.131,-4.475 ; -2.269,1.68 -1.731,1.68 ; -1.836,-4.475 4.369,-4.475 ; -0.269,1.68 0.269,1.68 ; 1.731,1.68 2.269,1.68 ; 3.731,1.68 5.3,1.68 5.3,3.17 6,3.17 ; 6,3.18 6,-0.798
Mechanical 2:
  circle w0.25: c-3,3.03 r0.125
Top Component Center:
  region: 2.75,4.05 3.25,4.05 3.25,1.65 2.75,1.65
  region: 0.75,4.05 1.25,4.05 1.25,1.65 0.75,1.65
  region: -1.25,4.05 -0.75,4.05 -0.75,1.65 -1.25,1.65
  region: -3.25,4.05 -2.75,4.05 -2.75,1.65 -3.25,1.65
  region: 5.25,-1.74 5.55,-1.74 5.55,-4.14 5.25,-4.14
  region: -5.55,-1.74 -5.25,-1.74 -5.25,-4.14 -5.55,-4.14
Mechanical 6:
  lines w0.051: -6,-3.64 -5.2,-3.64 -5.2,-4.44 5.2,-4.44 5.2,-3.64 6,-3.64 6,3.15 5.3,3.15 5.3,1.69 -5.3,1.69 -5.3,3.15 -6,3.15 -6,-3.64
Bottom 3D Body:
  region: -5.94,4.05 -5.94,4.025 -5.975,3.99 -6.025,3.99 -6.06,4.025 -6.06,4.05 -6.06,4.075 -6.025,4.11 -5.975,4.11 -5.94,4.075 -5.94,4.05
3D body "CON-2P-4.step": height 5.61, standoff 0.01, extent -6.013,-4.458 5.988,4.042